# Altium footprint library 3.20-未分类器件.PcbLib: 53 footprints (part 1 of 4)
Each footprint in its own frame and in the unit in brackets; x right, y up, seen from the top. Pads: shape width x height; smd on the part's side, far side on the other; paste and mask are expansions set on the pad; w line width, h text height; cw(c..) or ccw(c..) is an arc to the next point about the centre after c.
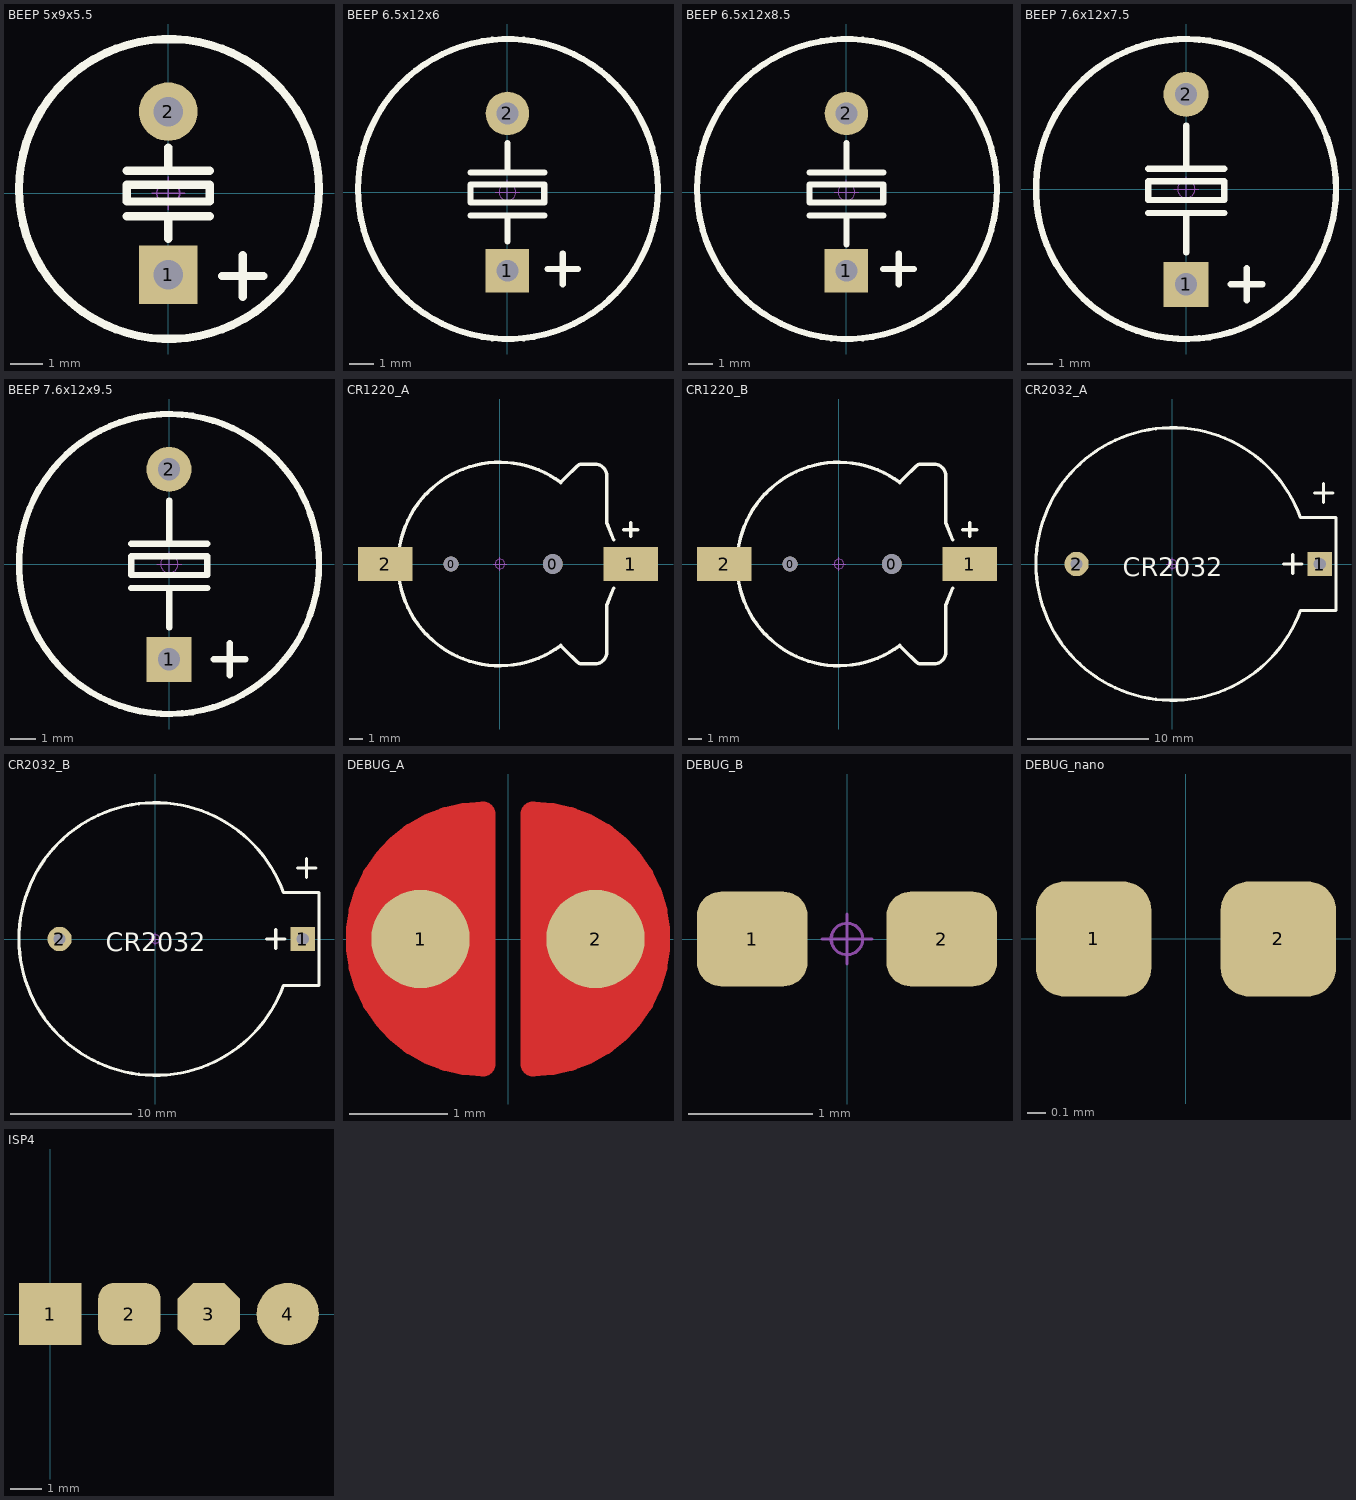
[diagram p0: the footprints below, top view; thin cyan lines are the x and y axes]

## BEEP 5x9x5.5 [mm] "5*9*5.5mm(脚距,直径,高度)        淘宝ID:黄晶宝石"
pads (2):
  rect 1.8x1.8 hole 0.9: 1(0,-2.5)
  round 1.8 hole 0.9: 2(0,2.5)
Top Overlay:
  circle w0.254: c0.023,0.127 r4.6
  lines w0.254: -1.27,-0.709 1.27,-0.709 ; -1.27,0.685 1.27,0.685 ; 0,-1.397 0,-0.709 ; 0,0.812 0,1.397 ; 1.651,-2.54 2.921,-2.54 ; 2.286,-3.175 2.286,-1.905 ; -1.27,-0.254 -1.27,0.254 1.27,0.254 1.27,-0.254 -1.27,-0.254
Mechanical 15:
  circle w0.05: c0,0 r0.35
  lines w0.05: -0.5,0 0.5,0 ; 0,-0.5 0,0.5
3D body "BEEP_5x9x5.5.STEP": height 5.45, standoff -3.55, extent -4.5,-4.5 4.5,4.5

## BEEP 6.5x12x6 [mm] "6.5*12*6mm(脚距,直径,高度)            淘宝ID:黄晶宝石"
pads (2):
  rect 1.8x1.8 hole 0.9: 1(0,-3.25)
  round 1.8 hole 0.9: 2(0,3.25)
Top Overlay:
  circle w0.254: c0.023,0.127 r6.2
  lines w0.254: -1.524,-0.963 1.524,-0.963 ; -1.524,0.812 1.524,0.812 ; 0,-2.032 0,-0.963 ; 0,0.812 0,2.032 ; 1.651,-3.175 2.921,-3.175 ; 2.286,-3.81 2.286,-2.54 ; -1.524,-0.438 1.524,-0.438 1.524,0.312 -1.524,0.312 -1.524,-0.438
Mechanical 15:
  circle w0.05: c0,0 r0.35
  lines w0.05: -0.5,0 0.5,0 ; 0,-0.5 0,0.5
3D body "BEEP_6.5x12x6.STEP": height 6.05, standoff -3.25, extent -6,-6 6,6

## BEEP 6.5x12x8.5 [mm] "6.5*12*8.5mm(脚距,直径,高度)              淘宝ID:黄晶宝石"
pads (2):
  rect 1.8x1.8 hole 0.9: 1(0,-3.25)
  round 1.8 hole 0.9: 2(0,3.25)
Top Overlay:
  circle w0.254: c0.023,0.127 r6.2
  lines w0.254: -1.524,-0.963 1.524,-0.963 ; -1.524,0.812 1.524,0.812 ; 0,-2.159 0,-0.963 ; 0,0.812 0,2.032 ; 1.524,-3.175 2.794,-3.175 ; 2.159,-3.81 2.159,-2.54 ; -1.524,-0.438 1.524,-0.438 1.524,0.312 -1.524,0.312 -1.524,-0.438
Mechanical 15:
  circle w0.05: c0,0 r0.35
  lines w0.05: -0.5,0 0.5,0 ; 0,-0.5 0,0.5
3D body "BEEP_6.5x12x8.5.STEP": height 8.55, standoff -3.25, extent -6,-6 6,6

## BEEP 7.6x12x7.5 [mm] "6.5*12*7.5mm(脚距,直径,高度)           淘宝ID:黄晶宝石"
height 9.398
pads (2):
  rect 1.8x1.8 hole 0.9: 1(-0.011,-3.811)
  round 1.8 hole 0.9: 2(-0.011,3.789)
Top Overlay:
  circle w0.254: c-0.011,0 r6.001
  lines w0.254: -1.524,-0.963 1.524,-0.963 ; -1.524,0.812 1.524,0.812 ; 0,-2.54 0,-0.963 ; 0,0.812 0,2.54 ; 1.778,-3.81 3.048,-3.81 ; 2.413,-4.445 2.413,-3.175 ; -1.524,-0.438 1.524,-0.438 1.524,0.312 -1.524,0.312 -1.524,-0.438
Mechanical 15:
  circle w0.05: c0,0 r0.35
  lines w0.05: -0.5,0 0.5,0 ; 0,-0.5 0,0.5
3D body "BEEP_7.6x12x7.5.STEP": height 2.75, standoff -8.05, extent -6.011,-6 5.989,6

## BEEP 7.6x12x9.5 [mm] "6.5*12*9.5mm(脚距,直径,高度)                  淘宝ID:黄晶宝石"
height 9.398
pads (2):
  rect 1.8x1.8 hole 0.9: 1(-0.011,-3.811)
  round 1.8 hole 0.9: 2(-0.011,3.789)
Top Overlay:
  circle w0.254: c-0.011,0 r6.001
  lines w0.254: -1.524,-0.963 1.524,-0.963 ; -1.524,0.812 1.524,0.812 ; 0,-2.54 0,-0.963 ; 0,0.812 0,2.54 ; 1.778,-3.81 3.048,-3.81 ; 2.413,-4.445 2.413,-3.175 ; -1.524,-0.438 1.524,-0.438 1.524,0.312 -1.524,0.312 -1.524,-0.438
Mechanical 15:
  circle w0.05: c0,0 r0.35
  lines w0.05: -0.5,0 0.5,0 ; 0,-0.5 0,0.5
3D body "BEEP_7.6x12x9.5.STEP": height 9.55, standoff -3.25, extent -6,-6 6,6

## CR1220_A [mm] "纽扣电池座                         淘宝ID:黄晶宝石"
pads (4):
  round 1.1 hole 1.1: 0(-3.6,0)
  round 1.45 hole 1.45: 0(3.9,0)
  rect 4x2.5 smd: 1(9.652,0) 2(-8.458,0)
Top Overlay:
  lines w0.254: 4.5,-6 cw(c0,0) 4.5,6 ; 4.572,-6.096 4.826,-6.35 5.662,-7.186 ccw(c6.096,-6.753) 6.096,-7.366 7.007,-7.366 ccw(c7.007,-6.499) 7.874,-6.499 7.874,-3.048 8.382,-1.778 ; 4.572,6.096 4.826,6.35 5.662,7.186 cw(c6.096,6.753) 6.096,7.366 7.007,7.366 cw(c7.007,6.499) 7.874,6.499 7.874,3.048 8.382,1.778 ; 9.144,2.54 10.16,2.54 ; 9.652,2.032 9.652,3.048
Mechanical 15:
  circle w0.05: c0,0 r0.35
  lines w0.05: -0.5,0 0.5,0 ; 0,-0.5 0,0.5
3D body "CR1220_A.STEP": height 4.05, standoff -0.85, extent -9.416,-7.45 10.34,7.45

## CR1220_B [mm] "纽扣电池座                              淘宝ID:黄晶宝石"
pads (4):
  round 1.1 hole 1.1: 0(-3.6,0)
  round 1.45 hole 1.45: 0(3.9,0)
  rect 4x2.5 smd: 1(9.652,0) 2(-8.458,0)
Top Overlay:
  lines w0.254: 4.5,-6 cw(c0,0) 4.5,6 ; 4.572,-6.096 4.826,-6.35 5.662,-7.186 ccw(c6.096,-6.753) 6.096,-7.366 7.007,-7.366 ccw(c7.007,-6.499) 7.874,-6.499 7.874,-3.048 8.382,-1.778 ; 4.572,6.096 4.826,6.35 5.662,7.186 cw(c6.096,6.753) 6.096,7.366 7.007,7.366 cw(c7.007,6.499) 7.874,6.499 7.874,3.048 8.382,1.778 ; 9.144,2.54 10.16,2.54 ; 9.652,2.032 9.652,3.048
Mechanical 15:
  circle w0.05: c0,0 r0.35
  lines w0.05: -0.5,0 0.5,0 ; 0,-0.5 0,0.5
3D body "CR1220_B.STEP": height 4.05, standoff -0.85, extent -9.416,-7.45 10.341,7.45

## CR2032_A [mm] "纽扣电池座                                  淘宝ID:黄晶宝石"
pads (2):
  rect 2x2 hole 1: 1(12.126,0)
  round 2 hole 1: 2(-7.874,0)
Top Overlay:
  lines w0.254: 9.144,0 10.668,0 ; 9.906,-0.762 9.906,0.762 ; 11.684,5.842 13.208,5.842 ; 12.446,5.08 12.446,6.604 ; 10.541,-3.81 cw(c0,0) 10.541,3.81 13.462,3.81 13.462,-3.81 10.541,-3.81
  text "CR2032" at -4.064,-1.016 h1.52
Mechanical 15:
  circle w0.05: c0,0 r0.35
  lines w0.05: -0.5,0 0.5,0 ; 0,-0.5 0,0.5
3D body "CR2032_A.STEP": height 8.75, standoff -3.05, extent -11.1,-11.098 13.3,11.099

## CR2032_B [mm] "纽扣电池座                               淘宝ID:黄晶宝石"
pads (2):
  rect 2x2 hole 1: 1(12.126,0)
  round 2 hole 1: 2(-7.874,0)
Top Overlay:
  lines w0.254: 9.144,0 10.668,0 ; 9.906,-0.762 9.906,0.762 ; 11.684,5.842 13.208,5.842 ; 12.446,5.08 12.446,6.604 ; 10.541,-3.81 cw(c0,0) 10.541,3.81 13.462,3.81 13.462,-3.81 10.541,-3.81
  text "CR2032" at -4.064,-1.016 h1.52
Mechanical 15:
  circle w0.05: c0,0 r0.35
  lines w0.05: -0.5,0 0.5,0 ; 0,-0.5 0,0.5
3D body "CR2032_B.STEP": height 8.75, standoff -3.05, extent -11.1,-11.099 13.3,11.099

## DEBUG_A [mm] "调试断点焊盘"
pads (2):
  round 1 smd paste-1: 1(-0.889,0) 2(0.889,0)
Top Layer:
  region: 0.254,1.27 0.254,-1.27 0.762,-1.143 1.397,-0.508 1.524,0.254 1.27,0.762 1.016,1.016 0.508,1.27
  region: -0.254,1.27 -0.254,-1.27 -0.762,-1.143 -1.397,-0.508 -1.524,0.254 -1.27,0.762 -1.016,1.016 -0.508,1.27
  lines w0.254: -0.254,-1.27 cw(c-0.254,0) -0.254,1.27 -0.254,-1.27 ; 0.254,-1.27 ccw(c0.254,0) 0.254,1.27 0.254,-1.27
Top Solder:
  region: -0.254,1.27 -0.254,-1.27 -0.762,-1.143 -1.397,-0.508 -1.524,0.254 -1.27,0.762 -1.016,1.016 -0.508,1.27
  region: 0.254,1.27 0.254,-1.27 0.762,-1.143 1.397,-0.508 1.524,0.254 1.27,0.762 1.016,1.016 0.508,1.27
  lines w0.254: -0.254,-1.27 cw(c-0.254,0) -0.254,1.27 -0.254,-1.27 ; 0.254,-1.27 ccw(c0.254,0) 0.254,1.27 0.254,-1.27

## DEBUG_B [mil] "调试断点焊盘"
pads (2):
  rrect50% 35x30 smd paste-35: 1(-30,0) 2(30,0)
Mechanical 15:
  circle w1: c0,0 r5
  lines w1: -7.87,0 7.87,0 ; 0,-7.87 0,7.87

## DEBUG_nano [mil] "调试断点焊盘"
pads (2):
  rrect50% 25x25 smd paste-25 mask+4: 1(-20,0)
  rrect50% 25x25 smd paste-25: 2(20,0)

## HD-1 [mm] "散热片"
3D body "User Library-Heat Sink 6400BG.STEP": height 65, standoff -3, extent -19.417,-13.172 22.583,12.228

## HD-2 [mm] "散热片"
3D body "User Library-heat sink-1.STEP": height 30.62, standoff 0, extent -12.521,-9.68 10.379,6.72

## HD-3 [mm] "散热片"
3D body "User Library-Heatsink-52AS.STEP": height 25, standoff 0, extent -13.737,-7.252 13.263,5.748

## ISP4 [mm] "4P测试点"
pads (4):
  rect 2x2 smd: 1(0,0)
  rrect50% 2x2 smd: 2(2.54,0)
  oct 2x2 smd: 3(5.08,0)
  round 2 smd: 4(7.62,0)